# Altium footprint library Passives.PcbLib: 12 footprints
Each footprint in its own frame and in the unit in brackets; x right, y up, seen from the top. Pads: shape width x height; smd on the part's side, far side on the other; paste and mask are expansions set on the pad; w line width, h text height; cw(c..) or ccw(c..) is an arc to the next point about the centre after c.
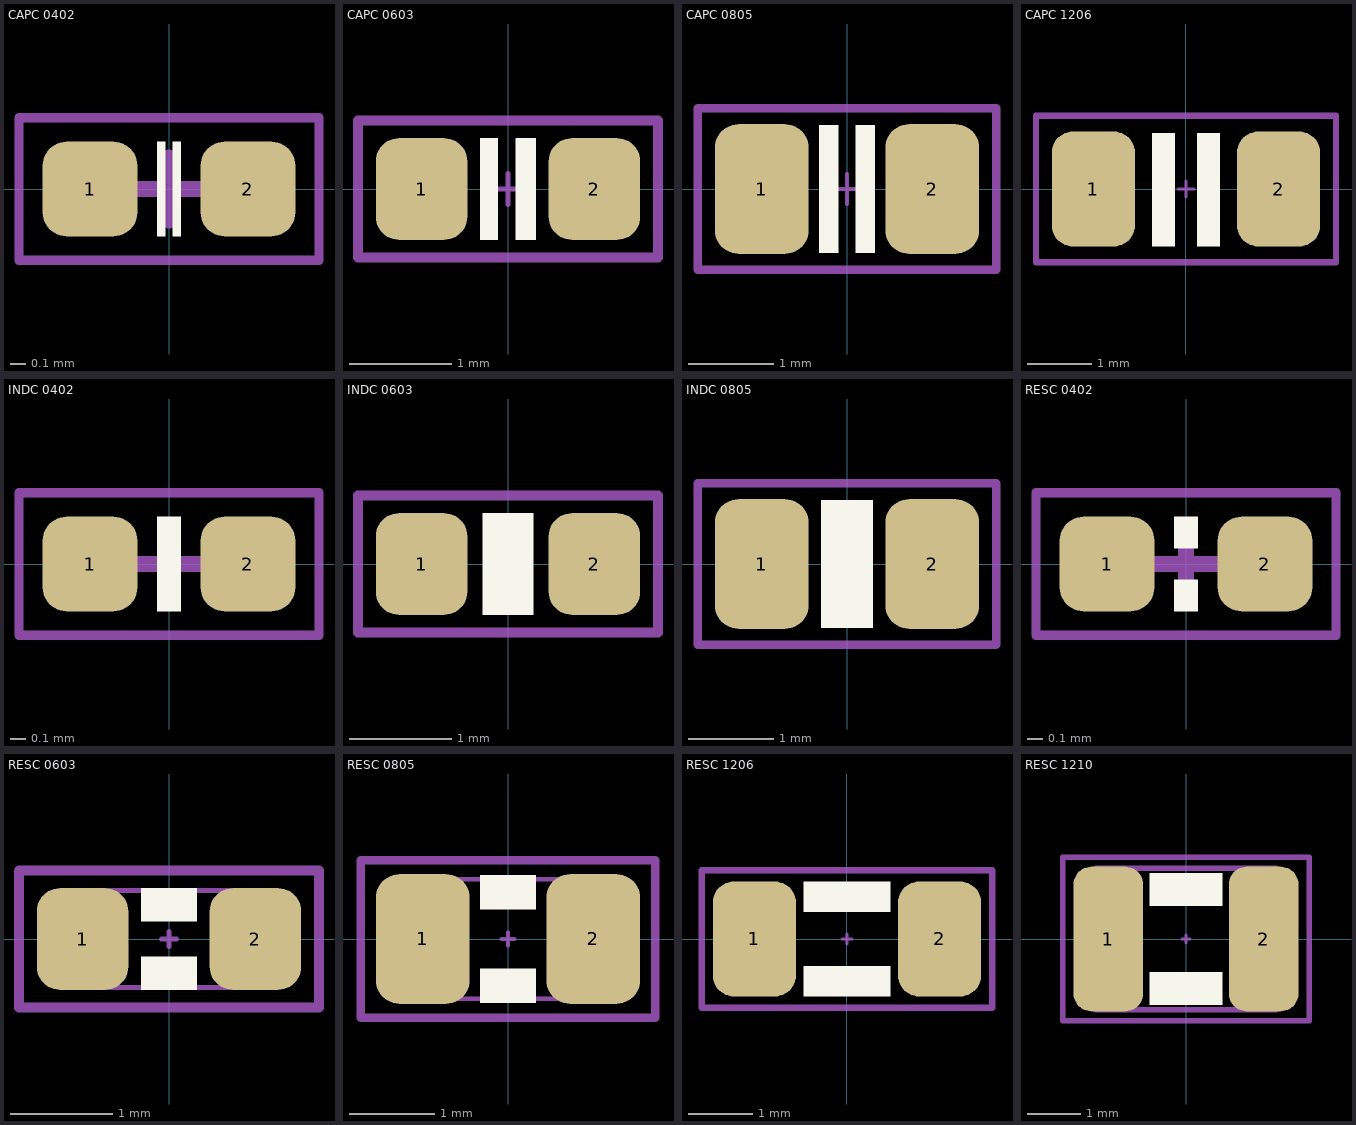
[diagram p0: the footprints below, top view; thin cyan lines are the x and y axes]

## CAPC 0402 [mm] "Chip Resistor, Body 1.1x0.5mm, IPC Medium Density"
height 0.4
pads (2):
  rrect50% 0.6x0.6 smd: 1(-0.5,0) 2(0.5,0)
Top Overlay:
  region: 0.075,-0.3 0.025,-0.3 0.025,0.3 0.075,0.3
  region: -0.075,0.3 -0.025,0.3 -0.025,-0.3 -0.075,-0.3
Mechanical 15:
  lines w0.06: -0.95,-0.45 0.95,-0.45 0.95,0.45 -0.95,0.45 -0.95,-0.45
  lines w0.1: -0.2,0 0.2,0 ; 0,-0.2 0,0.2
Mechanical 27:
  lines w0.06: -0.95,-0.45 -0.95,0.45 0.95,0.45 0.95,-0.45 -0.95,-0.45
  text "'.Designator'" at -0.8,-0.3 h0.8
3D body "0402 SMD Capacitor.step": height 0.2, standoff 0, extent -0.5,-0.3 0.5,0.3

## CAPC 0603 [mm] "Chip Resistor, Body 1.6x0.8mm, IPC Medium Density"
height 0.6
pads (2):
  rrect50% 0.9x1 smd: 1(-0.85,0) 2(0.85,0)
Top Overlay:
  region: 0.275,-0.5 0.075,-0.5 0.075,0.5 0.275,0.5
  region: -0.275,0.5 -0.1,0.5 -0.1,-0.5 -0.275,-0.5
Mechanical 15:
  lines w0.05: -0.15,0 0.15,0 ; 0,-0.15 0,0.15
  lines w0.1: -1.475,-0.675 1.475,-0.675 1.475,0.675 -1.475,0.675 -1.475,-0.675
Mechanical 27:
  lines w0.1: -1.475,-0.675 -1.475,0.675 1.475,0.675 1.475,-0.675 -1.475,-0.675
  text "'.Designator'" at -0.9,-0.475 h1.5
3D body "0603 SMD Capacitor.step": height 0.3, standoff 0, extent -0.8,-0.4 0.8,0.4

## CAPC 0805 [mm] "Chip Resistor, Body 2.0x1.3mm, IPC Medium Density"
height 0.65
pads (2):
  rrect50% 1.1x1.52 smd: 1(-1,0) 2(1,0)
Top Overlay:
  region: 0.325,-0.75 0.1,-0.75 0.1,0.75 0.325,0.75
  region: -0.325,0.75 -0.1,0.75 -0.1,-0.75 -0.325,-0.75
Mechanical 15:
  lines w0.05: -0.175,0 0.175,0 ; 0,-0.175 0,0.175
  lines w0.1: -1.75,-0.95 -1.75,0.95 1.75,0.95 1.75,-0.95 -1.75,-0.95
Mechanical 27:
  lines w0.1: -1.75,-0.95 1.75,-0.95 1.75,0.95 -1.75,0.95 -1.75,-0.95
  text "'.Designator'" at -1.025,-0.55 h1.7
3D body "0805 SMD Capacitor.step": height 0.78, standoff 0, extent -1,-0.625 1,0.625

## CAPC 1206 [mm]
pads (2):
  rrect50% 1.3x1.8 smd: 1(-1.45,0) 2(1.45,0)
Top Overlay:
  region: -0.525,0.875 -0.175,0.875 -0.175,-0.9 -0.525,-0.9
  region: 0.525,-0.9 0.175,-0.9 0.175,0.875 0.525,0.875
Mechanical 15:
  lines w0.05: -0.125,0 0.125,0 ; 0,-0.125 0,0.125
  lines w0.1: -2.35,-1.15 2.35,-1.15 2.35,1.15 -2.35,1.15 -2.35,-1.15
Mechanical 27:
  lines w0.1: -2.35,-1.15 -2.35,1.15 2.35,1.15 2.35,-1.15 -2.35,-1.15
  text "'.Designator'" at -1.2,-0.65 h2.1
3D body "1206 SMD Capacitor.step": height 1, standoff 0, extent -1.6,-0.8 1.6,0.8

## INDC 0402 [mm]
pads (2):
  rrect50% 0.6x0.6 smd: 1(-0.5,0) 2(0.5,0)
Top Overlay:
  region: 0.075,-0.3 -0.075,-0.3 -0.075,0.3 0.075,0.3
Mechanical 15:
  lines w0.06: -0.95,-0.45 -0.95,0.45 0.95,0.45 0.95,-0.45 -0.95,-0.45
  lines w0.1: -0.2,0 0.2,0 ; 0,-0.2 0,0.2
Mechanical 27:
  lines w0.06: -0.95,-0.45 0.95,-0.45 0.95,0.45 -0.95,0.45 -0.95,-0.45
  text "'.Designator'" at -0.8,-0.3 h0.8
3D body "User Library-Chip Inductor.step": height 0.5, standoff 0, extent -0.5,-0.3 0.5,0.3

## INDC 0603 [mm]
pads (2):
  rrect50% 0.9x1 smd: 1(-0.85,0) 2(0.85,0)
Top Overlay:
  region: -0.25,0.5 0.25,0.5 0.25,-0.5 -0.25,-0.5
Mechanical 15:
  lines w0.05: -0.075,0 0.075,0 ; 0,-0.075 0,0.075
  lines w0.1: -1.475,-0.675 -1.475,0.675 1.475,0.675 1.475,-0.675 -1.475,-0.675
Mechanical 27:
  lines w0.1: -1.475,-0.675 1.475,-0.675 1.475,0.675 -1.475,0.675 -1.475,-0.675
  text "'.Designator'" at -0.9,-0.475 h1.5
3D body "User Library-Chip Inductor.step": height 0.77, standoff -0.03, extent -0.8,-0.475 0.8,0.475

## INDC 0805 [mm]
pads (2):
  rrect50% 1.1x1.52 smd: 1(-1,0) 2(1,0)
Top Overlay:
  region: 0.3,-0.75 -0.3,-0.75 -0.3,0.75 0.3,0.75
Mechanical 15:
  lines w0.05: -0.075,0 0.075,0 ; 0,-0.075 0,0.075
  lines w0.1: -1.75,-0.95 1.75,-0.95 1.75,0.95 -1.75,0.95 -1.75,-0.95
Mechanical 27:
  text "'.Designator'" at -1.025,-0.55 h1.7
3D body "User Library-Chip Inductor.step": height 0.95, standoff 0, extent -1,-0.6 1,0.6

## RESC 0402 [mm] "Chip Resistor, Body 1.1x0.5mm, IPC Medium Density"
height 0.4
pads (2):
  rrect50% 0.6x0.6 smd: 1(-0.5,0) 2(0.5,0)
Top Overlay:
  region: -0.075,0.3 0.075,0.3 0.075,0.1 -0.075,0.1
  region: 0.075,-0.3 -0.075,-0.3 -0.075,-0.1 0.075,-0.1
Mechanical 15:
  lines w0.06: -0.95,-0.45 -0.95,0.45 0.95,0.45 0.95,-0.45 -0.95,-0.45
  lines w0.1: -0.2,0 0.2,0 ; 0,-0.2 0,0.2
Mechanical 27:
  text "'.Designator'" at -0.8,-0.3 h0.8
3D body "0402 SMD Resistor.step": height 0.2, standoff 0, extent -0.5,-0.3 0.5,0.3

## RESC 0603 [mm] "Chip Resistor, Body 1.6x0.8mm, IPC Medium Density"
height 0.6
pads (2):
  rrect50% 0.9x1 smd: 1(-0.85,0) 2(0.85,0)
Top Overlay:
  region: -0.275,-0.5 -0.275,-0.175 0.275,-0.175 0.275,-0.5
  region: 0.275,0.5 0.275,0.175 -0.275,0.175 -0.275,0.5
Mechanical 13:
  lines w0.05: -0.85,-0.475 0.85,-0.475 0.85,0.475 -0.85,0.475 -0.85,-0.475
Mechanical 15:
  lines w0.05: -0.075,0 0.075,0 ; 0,-0.075 0,0.075
  lines w0.1: -1.475,-0.675 1.475,-0.675 1.475,0.675 -1.475,0.675 -1.475,-0.675
Mechanical 27:
  text "'.Designator'" at -0.9,-0.475 h1.5
3D body "0603 SMD Resistor.step": height 0.3, standoff 0, extent -0.8,-0.4 0.8,0.4

## RESC 0805 [mm] "Chip Resistor, Body 2.0x1.3mm, IPC Medium Density"
height 0.65
pads (2):
  rrect50% 1.1x1.52 smd: 1(-1,0) 2(1,0)
Top Overlay:
  region: 0.325,0.75 0.325,0.35 -0.325,0.35 -0.325,0.75
  region: -0.325,-0.75 -0.325,-0.35 0.325,-0.35 0.325,-0.75
Mechanical 13:
  lines w0.05: -1.075,-0.7 -1.075,0.7 1.075,0.7 1.075,-0.7 -1.075,-0.7
Mechanical 15:
  lines w0.05: -0.075,0 0.075,0 ; 0,-0.075 0,0.075
  lines w0.1: -1.725,-0.925 -1.725,0.925 1.725,0.925 1.725,-0.925 -1.725,-0.925
Mechanical 27:
  text "'.Designator'" at -1.025,-0.55 h1.7
3D body "0805 SMD Resistor.step": height 0.78, standoff 0, extent -1,-0.625 1,0.625

## RESC 1206 [mm]
pads (2):
  rrect50% 1.3x1.8 smd: 1(-1.45,0) 2(1.45,0)
Top Overlay:
  region: 0.675,0.9 0.675,0.425 -0.675,0.425 -0.675,0.9
  region: -0.675,-0.9 -0.675,-0.425 0.675,-0.425 0.675,-0.9
Mechanical 15:
  lines w0.05: -0.075,0 0.075,0 ; 0,-0.075 0,0.075
  lines w0.1: -2.275,-1.075 -2.275,1.075 2.275,1.075 2.275,-1.075 -2.275,-1.075
Mechanical 27:
  text "'.Designator'" at -1.2,-0.65 h2.1
3D body "1206 SMD Resistor.step": height 1, standoff 0, extent -1.6,-0.8 1.6,0.8

## RESC 1210 [mm]
pads (2):
  rrect50% 1.3x2.7 smd: 1(-1.45,0) 2(1.45,0)
Top Overlay:
  region: 0.675,1.225 0.675,0.625 -0.675,0.625 -0.675,1.225
  region: -0.675,-1.225 -0.675,-0.625 0.675,-0.625 0.675,-1.225
Mechanical 13:
  lines w0.1: -1.675,-1.32 -1.675,1.32 1.675,1.32 1.675,-1.32 -1.675,-1.32
Mechanical 15:
  lines w0.05: -0.075,0 0.075,0 ; 0,-0.075 0,0.075
  lines w0.1: -2.3,-1.525 -2.3,1.525 2.3,1.525 2.3,-1.525 -2.3,-1.525
Mechanical 27:
  text "'.Designator'" at -1.2,-0.65 h2.1
3D body "User Library-R_1210.step": height 0.6, standoff 0, extent -1.6,-1.25 1.6,1.25